# Altium footprint library MolexSpox5Ver.PcbLib: 2 footprints
Each footprint in its own frame and in the unit in brackets; x right, y up, seen from the top. Pads: shape width x height; smd on the part's side, far side on the other; paste and mask are expansions set on the pad; w line width, h text height; cw(c..) or ccw(c..) is an arc to the next point about the centre after c.
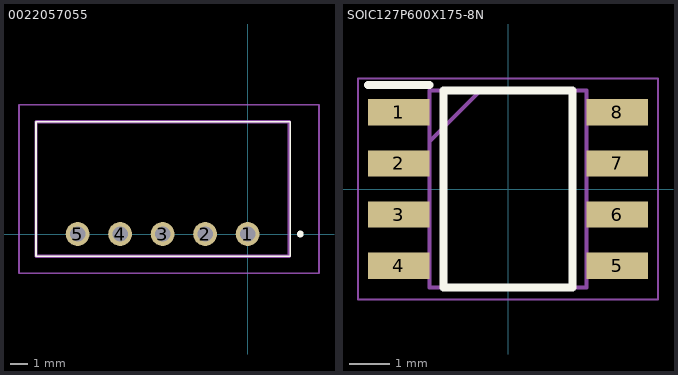
[diagram p0: the footprints below, top view; thin cyan lines are the x and y axes]

## 0022057055 [mm]
pads (5):
  round 1.4 hole 0.9: 1(0,0) 2(-2.5,0) 3(-5,0) 4(-7.5,0) 5(-10,0)
Top Overlay:
  lines w0.1: -12.45,-1.3 2.5,-1.3 2.5,6.6 -12.45,6.6 -12.45,-1.3
  lines w0.2: 3,0 ccw(c3.1,0) 3.2,0 ccw(c3.1,0) 3,0
Mechanical 13:
  lines w0.2: -12.45,-1.3 2.45,-1.3 2.45,6.6 -12.45,6.6 -12.45,-1.3
Mechanical 15:
  lines w0.1: -13.45,-2.3 4.2,-2.3 4.2,7.6 -13.45,7.6 -13.45,-2.3
3D body "0022057055.stp": height 5.2, standoff -5, extent -12.45,-1.3 2.45,6.6

## SOIC127P600X175-8N [mm]
pads (8):
  rect 1.525x0.65 smd: 1(-2.712,1.905) 2(-2.712,0.635) 3(-2.712,-0.635) 4(-2.712,-1.905) 5(2.712,-1.905) 6(2.712,-0.635) 7(2.712,0.635) 8(2.712,1.905)
Top Overlay:
  lines w0.2: -3.475,2.58 -1.95,2.58 ; -1.6,-2.45 1.6,-2.45 1.6,2.45 -1.6,2.45 -1.6,-2.45
Mechanical 13:
  lines w0.1: -1.95,1.18 -0.68,2.45 ; -1.95,-2.45 1.95,-2.45 1.95,2.45 -1.95,2.45 -1.95,-2.45
Mechanical 15:
  lines w0.05: -3.725,-2.75 3.725,-2.75 3.725,2.75 -3.725,2.75 -3.725,-2.75
3D body "NE555DR.stp": height 1.75, standoff 0, extent -3,-2.45 3,2.45